# Altium schematic symbol library SI4599DY.SchLib: 1 symbol
Pins are listed as number, name and electrical type; pins without a type are passive.

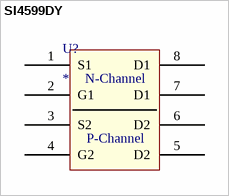
[diagram p0: symbol SI4599DY]

## SI4599DY
designator U?
pins: 1 S1 "N-Ch", 2 G1 "N-Ch", 3 S2 "P-Ch", 4 G2 "P-Ch", 5 D2 "P-Ch", 6 D2 (power) "P-Ch", 7 D1 "N-Ch", 8 D1 "N-Ch"
text: N-Channel; P-Channel